# EAGLE library part 253-109/000-012 (library con-wago_253)
Serie 253, 2-Leiter-Klemmenleiste für Leiterplatten 1 Lötstift/Pol versetzt / Series 253, 2-conductor PCB terminal strip 1 solder pin/pole, staggered Polzahl / Pole No.: 9 Rastermaß / Pitch: 5 mm Bemessungsspannung / Rated Voltage: 320 V Nennstrom / Nominal Current: 17.5 A Leiterquerschnitt / Conductor Size: 0.5 - 1.5 mm² Anschlusstechnik / Connection Technology: PUSH WIRE® Lötstiftlänge: / Solder Pin Length: 3.6 mm Leitereinführung (zur Platine) / Conductor entry angle (to PCB): 0 ° Farbe / Color: orange / orange Stand: 01.01.2012. Die jeweils aktuellen Daten zu diesem Artikel finden Sie in unserem Produktkatalog, den Sie unter www.wago.com einsehen können. As of: 01/01/2012. Please find the newest data for this article in our product catalogue, which can be viewed under www.wago.com.
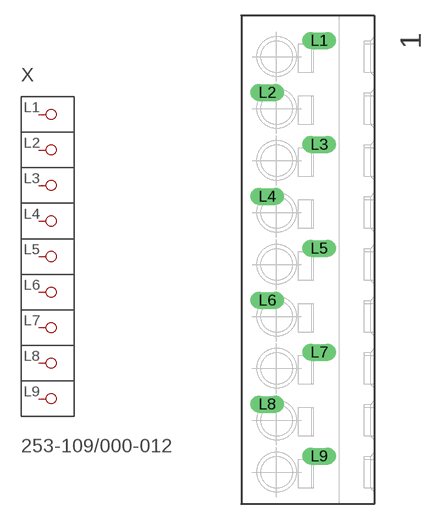
[diagram p69: symbol with the pads of P-253-109; footprint P-253-109]

Designator prefix X

## 253-109/000-012  [P-253-109]
L1  P1
L2  P2
L3  P3
L4  P4
L5  P5
L6  P6
L7  P7
L8  P8
L9  P9

## Footprint P-253-109 (pad centres in mm)
drill 1.1 long: L1 1.1,21.1; L2 -3.9,16.1; L3 1.1,11.1; L4 -3.9,6.1; L5 1.1,1.1; L6 -3.9,-3.9; L7 1.1,-8.9; L8 -3.9,-13.9; L9 1.1,-18.9